# Altium schematic symbol library SCH - MCU - STM32 - ST MICROELECTRONICS STM32L422RBIX UFBGA64.SchLib: 1 symbol
Pins are listed as number, name and electrical type; pins without a type are passive.

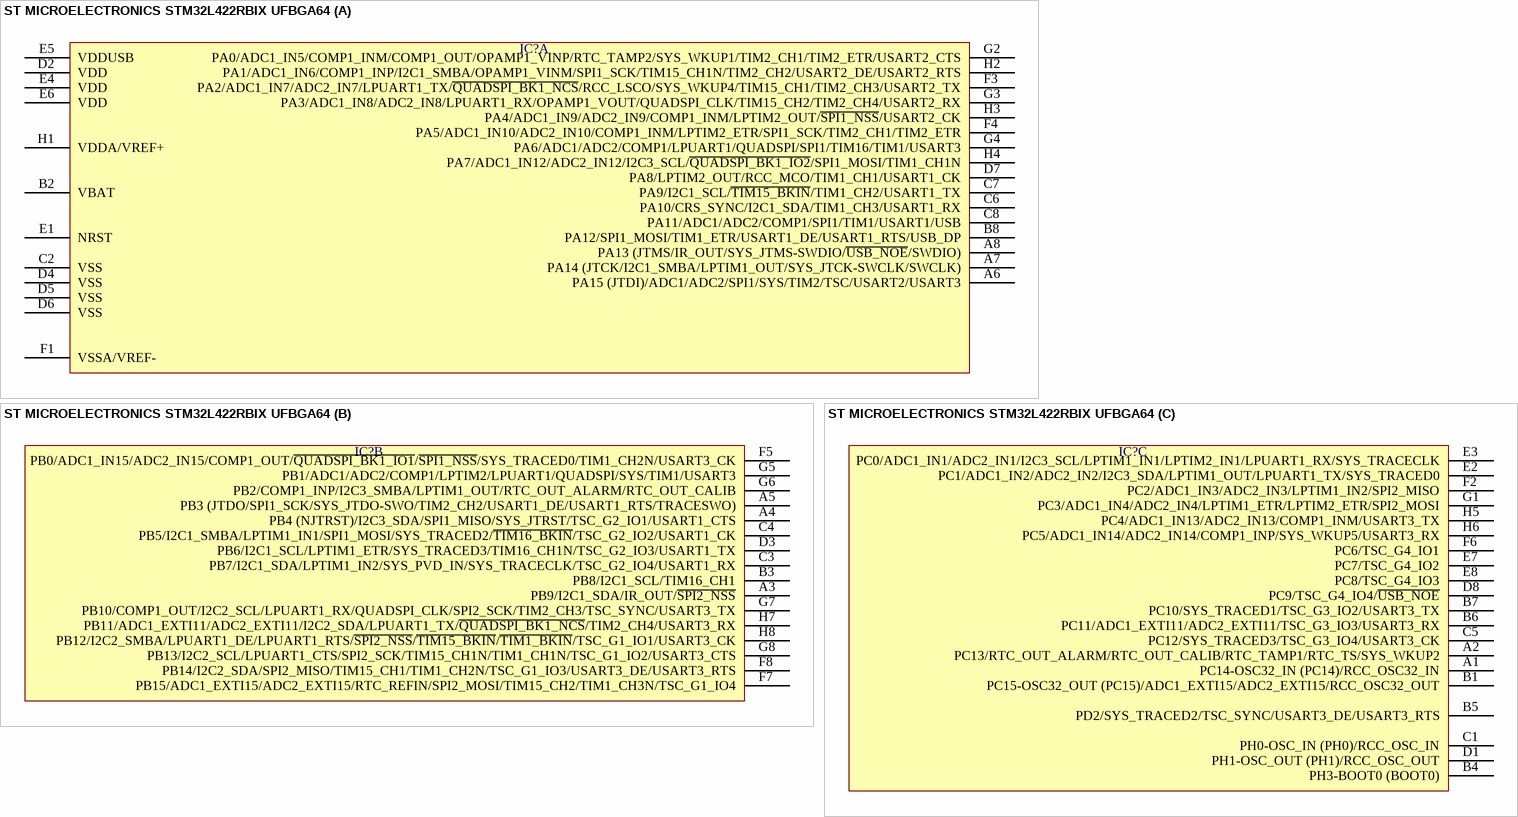
[diagram p0: symbol ST MICROELECTRONICS STM32L422RBIX UFBGA64]

## ST MICROELECTRONICS STM32L422RBIX UFBGA64
designator IC?  (value not drawn)
part A pins: A6 PA15 (JTDI)/ADC1/ADC2/SPI1/SYS/TIM2/TSC/USART2/USART3, A7 PA14 (JTCK/I2C1_SMBA/LPTIM1_OUT/SYS_JTCK-SWCLK/SWCLK), A8 PA13 (JTMS/IR_OUT/SYS_JTMS-SWDIO/~{USB_NOE}/SWDIO), B2 VBAT, B8 PA12/SPI1_MOSI/TIM1_ETR/USART1_DE/USART1_RTS/USB_DP, C2 VSS, C6 PA10/CRS_SYNC/I2C1_SDA/TIM1_CH3/USART1_RX, C7 PA9/I2C1_SCL/~{TIM15_BKIN}/TIM1_CH2/USART1_TX, C8 PA11/ADC1/ADC2/COMP1/SPI1/TIM1/USART1/USB, D2 VDD, D4 VSS, D5 VSS, D6 VSS, D7 PA8/LPTIM2_OUT/RCC_MCO/TIM1_CH1/USART1_CK, E1 NRST, E4 VDD, E5 VDDUSB, E6 VDD, F1 VSSA/VREF-, F3 PA2/ADC1_IN7/ADC2_IN7/LPUART1_TX/~{QUADSPI_BK1_NCS}/RCC_LSCO/SYS_WKUP4/TIM15_CH1/TIM2_CH3/USART2_TX, F4 PA5/ADC1_IN10/ADC2_IN10/COMP1_INM/LPTIM2_ETR/SPI1_SCK/TIM2_CH1/TIM2_ETR, G2 PA0/ADC1_IN5/COMP1_INM/COMP1_OUT/OPAMP1_VINP/RTC_TAMP2/SYS_WKUP1/TIM2_CH1/TIM2_ETR/USART2_CTS, G3 PA3/ADC1_IN8/ADC2_IN8/LPUART1_RX/OPAMP1_VOUT/QUADSPI_CLK/TIM15_CH2/TIM2_CH4/USART2_RX, G4 PA6/ADC1/ADC2/COMP1/LPUART1/QUADSPI/SPI1/TIM16/TIM1/USART3, H1 VDDA/VREF+, H2 PA1/ADC1_IN6/COMP1_INP/I2C1_SMBA/OPAMP1_VINM/SPI1_SCK/TIM15_CH1N/TIM2_CH2/USART2_DE/USART2_RTS, H3 PA4/ADC1_IN9/ADC2_IN9/COMP1_INM/LPTIM2_OUT/~{SPI1_NSS}/USART2_CK, H4 PA7/ADC1_IN12/ADC2_IN12/I2C3_SCL/~{QUADSPI_BK1_IO2}/SPI1_MOSI/TIM1_CH1N
part B pins: A3 PB9/I2C1_SDA/IR_OUT/~{SPI2_NSS}, A4 PB4 (NJTRST)/I2C3_SDA/SPI1_MISO/SYS_JTRST/TSC_G2_IO1/USART1_CTS, A5 PB3 (JTDO/SPI1_SCK/SYS_JTDO-SWO/TIM2_CH2/USART1_DE/USART1_RTS/TRACESWO), B3 PB8/I2C1_SCL/TIM16_CH1, C3 PB7/I2C1_SDA/LPTIM1_IN2/SYS_PVD_IN/SYS_TRACECLK/TSC_G2_IO4/USART1_RX, C4 PB5/I2C1_SMBA/LPTIM1_IN1/SPI1_MOSI/SYS_TRACED2/~{TIM16_BKIN}/TSC_G2_IO2/USART1_CK, D3 PB6/I2C1_SCL/LPTIM1_ETR/SYS_TRACED3/TIM16_CH1N/TSC_G2_IO3/USART1_TX, F5 PB0/ADC1_IN15/ADC2_IN15/COMP1_OUT/~{QUADSPI_BK1_IO1}/~{SPI1_NSS}/SYS_TRACED0/TIM1_CH2N/USART3_CK, F7 PB15/ADC1_EXTI15/ADC2_EXTI15/RTC_REFIN/SPI2_MOSI/TIM15_CH2/TIM1_CH3N/TSC_G1_IO4, F8 PB14/I2C2_SDA/SPI2_MISO/TIM15_CH1/TIM1_CH2N/TSC_G1_IO3/USART3_DE/USART3_RTS, G5 PB1/ADC1/ADC2/COMP1/LPTIM2/LPUART1/QUADSPI/SYS/TIM1/USART3, G6 PB2/COMP1_INP/I2C3_SMBA/LPTIM1_OUT/RTC_OUT_ALARM/RTC_OUT_CALIB, G7 PB10/COMP1_OUT/I2C2_SCL/LPUART1_RX/QUADSPI_CLK/SPI2_SCK/TIM2_CH3/TSC_SYNC/USART3_TX, G8 PB13/I2C2_SCL/LPUART1_CTS/SPI2_SCK/TIM15_CH1N/TIM1_CH1N/TSC_G1_IO2/USART3_CTS, H7 PB11/ADC1_EXTI11/ADC2_EXTI11/I2C2_SDA/LPUART1_TX/~{QUADSPI_BK1_NCS}/TIM2_CH4/USART3_RX, H8 PB12/I2C2_SMBA/LPUART1_DE/LPUART1_RTS/~{SPI2_NSS}/~{TIM15_BKIN}/~{TIM1_BKIN}/TSC_G1_IO1/USART3_CK
part C pins: A1 PC14-OSC32_IN (PC14)/RCC_OSC32_IN, A2 PC13/RTC_OUT_ALARM/RTC_OUT_CALIB/RTC_TAMP1/RTC_TS/SYS_WKUP2, B1 PC15-OSC32_OUT (PC15)/ADC1_EXTI15/ADC2_EXTI15/RCC_OSC32_OUT, B4 PH3-BOOT0 (BOOT0), B5 PD2/SYS_TRACED2/TSC_SYNC/USART3_DE/USART3_RTS, B6 PC11/ADC1_EXTI11/ADC2_EXTI11/TSC_G3_IO3/USART3_RX, B7 PC10/SYS_TRACED1/TSC_G3_IO2/USART3_TX, C1 PH0-OSC_IN (PH0)/RCC_OSC_IN, C5 PC12/SYS_TRACED3/TSC_G3_IO4/USART3_CK, D1 PH1-OSC_OUT (PH1)/RCC_OSC_OUT, D8 PC9/TSC_G4_IO4/~{USB_NOE}, E2 PC1/ADC1_IN2/ADC2_IN2/I2C3_SDA/LPTIM1_OUT/LPUART1_TX/SYS_TRACED0, E3 PC0/ADC1_IN1/ADC2_IN1/I2C3_SCL/LPTIM1_IN1/LPTIM2_IN1/LPUART1_RX/SYS_TRACECLK, E7 PC7/TSC_G4_IO2, E8 PC8/TSC_G4_IO3, F2 PC2/ADC1_IN3/ADC2_IN3/LPTIM1_IN2/SPI2_MISO, F6 PC6/TSC_G4_IO1, G1 PC3/ADC1_IN4/ADC2_IN4/LPTIM1_ETR/LPTIM2_ETR/SPI2_MOSI, H5 PC4/ADC1_IN13/ADC2_IN13/COMP1_INM/USART3_TX, H6 PC5/ADC1_IN14/ADC2_IN14/COMP1_INP/SYS_WKUP5/USART3_RX